# Altium schematic symbol library 其他元器件.SchLib: 2 symbols
Pins are listed as number, name and electrical type; pins without a type are passive.

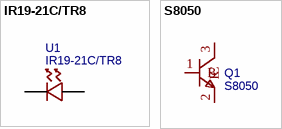
[diagram p0: symbols IR19-21C/TR8 to S8050]

## IR19-21C/TR8
designator U1
红外发射管，波长940nm; BOM_Manufacturer: Everlight Elec; Contributor: LCSC; BOM_Supplier: LCSC; BOM_Supplier Part: C93768; BOM_Manufacturer Part: IR19-21C/TR8; BOM_JLCPCB Part Class: Extended Part; spicePre: U; spiceSymbolName: IR19-21C/TR8
footprint LED_0603
pins: 1 A, 2 C

## S8050
designator Q1
BOM_Manufacturer: FOSAN(富信); Contributor: LCSC; BOM_Supplier: LCSC; BOM_Supplier Part: C2926165; BOM_Manufacturer Part: S8050; BOM_JLCPCB Part Class: Extended Part; spicePre: Q; spiceSymbolName: S8050_C2926165
footprint SOT23
pins: 1 B, 2 E, 3 C